# Altium schematic symbol library 电池及电源.SCHLIB: 1 symbol
Pins are listed as number, name and electrical type; pins without a type are passive.

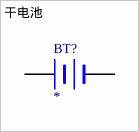
[diagram p0: symbol 干电池]

## 干电池
designator BT?
Battery
pins: 1 +, 2 -